# Altium schematic symbol library RJ45_Shielded 8P8C STRAIGHT.SchLib: 1 symbol
Pins are listed as number, name and electrical type; pins without a type are passive.

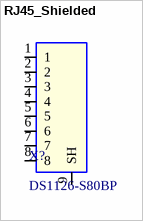
[diagram p0: symbol RJ45_Shielded]

## RJ45_Shielded
designator X?, comment DS1126-S80BP
Part Reference: X?; Assembled: Automat; Size: RJ45; PCB_Footprint: *; Value: DS1126-S80BP; MEGA_ID: *; Voltage: *; Power: *; Tolerance: *; Manufacturer Part Number: DS1126-S80BP
footprint DS1126-S80BP (RJ45 shielded THT straight PCB connector)
pins: 1 (power), 2 (power), 3 (power), 4 (power), 5 (power), 6 (power), 7 (power), 8 (power), 9 SH (power)